# Altium schematic symbol library Battery.SchLib: 3 symbols
Pins are listed as number, name and electrical type; pins without a type are passive.

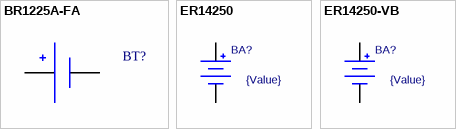
[diagram p0: symbols BR1225A-FA to ER14250-VB]

## BR1225A-FA
designator BT?, comment Батарея BR1225A-FA  (value not drawn)
Part Field 1: *
pins: 1 + (power), 2 - (power)

## ER14250
designator BA?  value {Value}  (hidden comment: *)
ER14250
footprint ER14250
pins: 1, 2 hidden, 3 hidden, 4, 5 hidden, 6 hidden

## ER14250-VB
designator BA?  value {Value}  (hidden comment: *)
ER14250-VB
footprint ER14250
pins: 1, 2